# Altium schematic symbol library BoxHeader.SchLib: 1 symbol
Pins are listed as number, name and electrical type; pins without a type are passive.

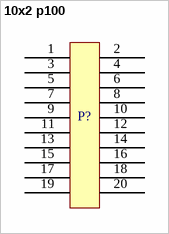
[diagram p0: symbol 10x2 p100]

## 10x2 p100
designator P?  (value not drawn)
20 pin p100
footprint 10x2 p100 (20pin 10x2 p100)
pins: 1, 2, 3, 4, 5, 6, 7, 8, 9, 10, 11, 12, 13, 14, 15, 16, 17, 18, 19, 20